# EAGLE library part 74HC4067 (library work)
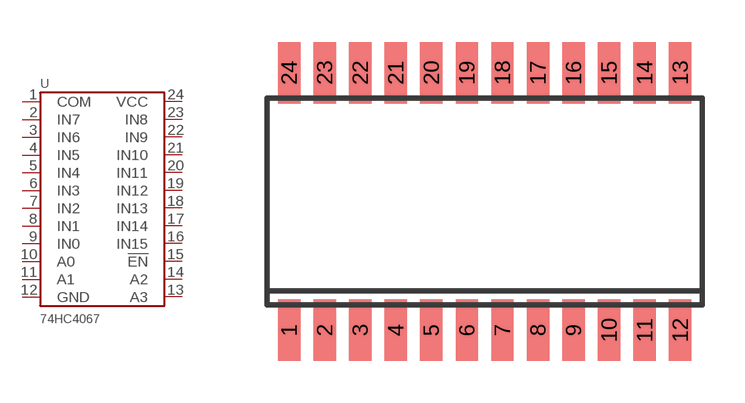
[diagram p32: symbol with the pads of SOIC24; footprint SOIC24]

Designator prefix U

## 74HC4067  [SOIC24]
1  COM
2  IN7
3  IN6
4  IN5
5  IN4
6  IN3
7  IN2
8  IN1
9  IN0
10  A0
11  A1
12  GND
13  A3
14  A2
15  !EN
16  IN15
17  IN14
18  IN13
19  IN12
20  IN11
21  IN10
22  IN9
23  IN8
24  VCC

## Footprint SOIC24 (pad centres in mm)
smd 0.8 x 2.2: 1 -6.985,-4.6; 2 -5.715,-4.6; 3 -4.445,-4.6; 4 -3.175,-4.6; 5 -1.905,-4.6; 6 -0.635,-4.6; 7 0.635,-4.6; 8 1.905,-4.6; 9 3.175,-4.6; 10 4.445,-4.6; 11 5.715,-4.6; 12 6.985,-4.6; 13 6.985,4.6; 14 5.715,4.6; 15 4.445,4.6; 16 3.175,4.6; 17 1.905,4.6; 18 0.635,4.6; 19 -0.635,4.6; 20 -1.905,4.6; 21 -3.175,4.6; 22 -4.445,4.6; 23 -5.715,4.6; 24 -6.985,4.6